# EAGLE library part THS4561IDGKT (library THS4561_DiffAmp)
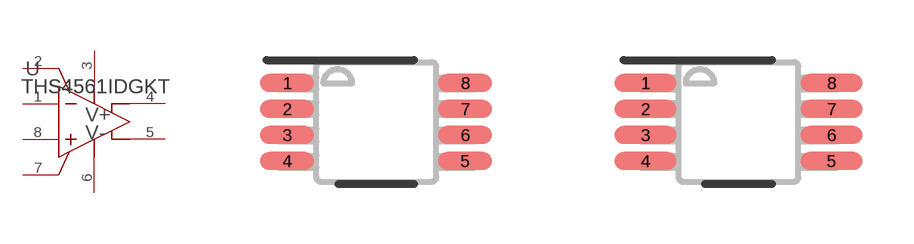
[diagram p0: symbol with the pads of DGK0008A_N; footprints DGK0008A_N, DGK0008A_M]

Designator prefix U

## THS4561IDGKT (MANUFACTURER: Texas Instruments; PARTNUMBER: THS4561IDGKR; REFDES: RefDes; TYPE: TYPE; VALUE: Value)  [DGK0008A_N]
1  VIN-  in
2  VOCM  in
3  VS+  pwr
4  VOUT+  out
5  VOUT-  out
6  VS-  pwr
7  PD_N  in
8  VIN+  in

## THS4561IDGKTDGK0008A_M (MANUFACTURER: Texas Instruments; PARTNUMBER: THS4561IDGKR; REFDES: RefDes; TYPE: TYPE; VALUE: Value)  [DGK0008A_M]
Pads as for DGK0008A_N

## THS4561IDGKTDGK0008A_L (MANUFACTURER: Texas Instruments; PARTNUMBER: THS4561IDGKR; REFDES: RefDes; TYPE: TYPE; VALUE: Value)  [DGK0008A_L]
Pads as for DGK0008A_N

## Footprint DGK0008A_N (pad centres in mm)
smd 1.35 x 0.45: 1 -2.225,0.975; 2 -2.225,0.325; 3 -2.225,-0.325; 4 -2.225,-0.975; 5 2.225,-0.975; 6 2.225,-0.325; 7 2.225,0.325; 8 2.225,0.975

## Footprint DGK0008A_M (pad centres in mm)
smd 1.55 x 0.45: 1 -2.325,0.975; 2 -2.325,0.325; 3 -2.325,-0.325; 4 -2.325,-0.975; 5 2.325,-0.975; 6 2.325,-0.325; 7 2.325,0.325; 8 2.325,0.975

## Footprint DGK0008A_L (pad centres in mm)
smd 1.15 x 0.45: 1 -2.125,0.975; 2 -2.125,0.325; 3 -2.125,-0.325; 4 -2.125,-0.975; 5 2.125,-0.975; 6 2.125,-0.325; 7 2.125,0.325; 8 2.125,0.975